# Altium footprint library Loggerhead.PcbLib: 175 footprints (part 1 of 11)
Each footprint in its own frame and in the unit in brackets; x right, y up, seen from the top. Pads: shape width x height; smd on the part's side, far side on the other; paste and mask are expansions set on the pad; w line width, h text height; cw(c..) or ccw(c..) is an arc to the next point about the centre after c.
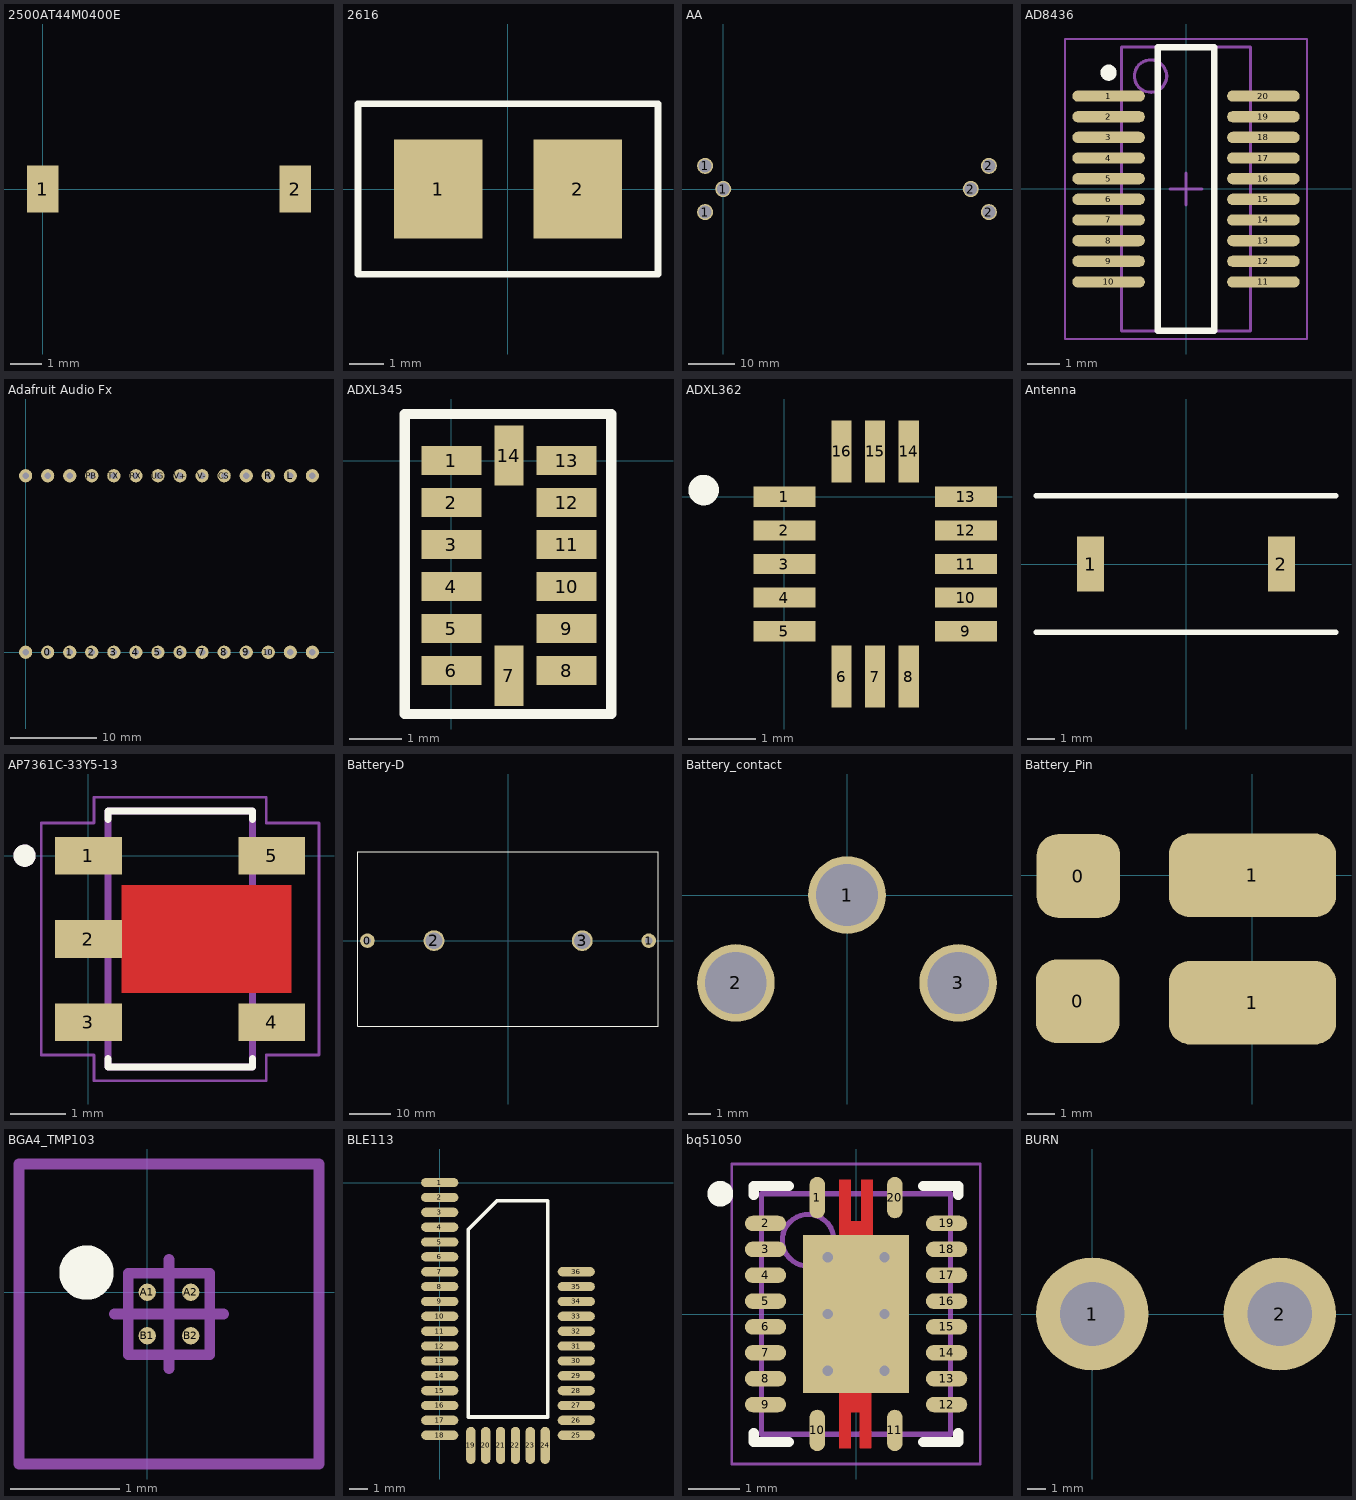
[diagram p0: the footprints below, top view; thin cyan lines are the x and y axes]

## 2500AT44M0400E [mm] "2.4GHz Antenna"
height 1
pads (2):
  rect 1x1.5 smd: 1(0,0) 2(8,0)

## 2616 [mm]
pads (2):
  rect 2.6x2.9 smd: 1(-2.05,0) 2(2.05,0)
Top Overlay:
  lines w0.2: -4.4,-2.5 4.4,-2.5 4.4,2.5 -4.4,2.5 -4.4,0 -4.4,-2.5

## AA [mm]
height 9.65
pads (6):
  round 3.5 hole 2.79: 1(-3.96,-5.015) 1(-3.96,5.015) 1(0,0) 2(53.9,0) 2(57.86,-5.015) 2(57.86,5.015)

## AD8436 [mm] "RMS to DC"
height 1.75
pads (20):
  oval 2.25x0.35 smd: 1(-2.4,2.88) 2(-2.4,2.24) 3(-2.4,1.6) 4(-2.4,0.96) 5(-2.4,0.32) 6(-2.4,-0.32) 7(-2.4,-0.96) 8(-2.4,-1.6) 9(-2.4,-2.24) 10(-2.4,-2.88) 11(2.4,-2.88) 12(2.4,-2.24) 13(2.4,-1.6) 14(2.4,-0.96) 15(2.4,-0.32) 16(2.4,0.32) 17(2.4,0.96) 18(2.4,1.6) 19(2.4,2.24) 20(2.4,2.88)
Top Overlay:
  circle w0.25: c-2.4,3.605 r0.125
  lines w0.2: -0.875,-4.4 -0.875,4.4 0.875,4.4 0.875,-4.4 -0.875,-4.4
Mechanical 13:
  circle w0.1: c-1.1,3.5 r0.5
  lines w0.1: -2,-4.4 -2,4.4 2,4.4 2,-4.4 -2,-4.4
Mechanical 15:
  lines w0.05: -3.75,-4.65 -3.75,4.65 3.75,4.65 3.75,-4.65 -3.75,-4.65
  lines w0.1: -0.5,0 0.5,0 ; 0,-0.5 0,0.5
3D body: height 1.75, standoff 0.2, extent -2,-4.4 2,4.4

## Adafruit Audio Fx [mil]
pads (28):
  round 60 hole 30: 0(100,0) 1(200,0) 2(300,0) 3(400,0) 4(500,0) 5(600,0) 6(700,0) 7(800,0) 8(900,0) 9(1000,0) 10(1100,0) ACT(1200,0) AUDIO_GND(1300,800) BUS(200,800) CS(900,800) GND(100,800) GND(1000,800) GND(1300,0) L(1200,800) PB(300,800) R(1100,800) RST(0,0) RX(500,800) TX(400,800) UG(600,800) V+(700,800) V-(800,800) Vin(0,800)

## ADXL345 [mm] "Digital Accelerometer"
height 0.95
pads (14):
  rect 1.145x0.55 smd: 1(0,0) 2(0,-0.8) 3(0,-1.6) 4(0,-2.4) 5(0,-3.2) 6(0,-4) 8(2.195,-4) 9(2.195,-3.2) 10(2.195,-2.4) 11(2.195,-1.6) 12(2.195,-0.8) 13(2.195,0)
  rect 0.55x1.145 smd: 7(1.098,-4.098) 14(1.098,0.098)
Top Overlay:
  lines w0.2: -0.889,-4.826 3.048,-4.826 3.048,0.889 -0.889,0.889 -0.889,-4.826

## ADXL362 [mm]
height 1.14
pads (16):
  rect 0.925x0.3 smd: 1(0,0) 2(0,-0.5) 3(0,-1) 4(0,-1.5) 5(0,-2) 9(2.7,-2) 10(2.7,-1.5) 11(2.7,-1) 12(2.7,-0.5) 13(2.7,0)
  rect 0.3x0.925 smd: 6(0.85,-2.675) 7(1.35,-2.675) 8(1.85,-2.675) 14(1.85,0.675) 15(1.35,0.675) 16(0.85,0.675)
Top Overlay:
  circle w0.254: c-1.2,0.1 r0.1

## Antenna [mm]
pads (2):
  rect 1x2 smd: 1(-3.5,0) 2(3.5,0)
Top Overlay:
  lines w0.2: -5.5,-2.5 5.5,-2.5 ; -5.5,2.5 5.5,2.5

## AP7361C-33Y5-13 [mm] "3.3V LDO"
pads (5):
  rect 1.2x0.68 smd: 1(0,0) 3(0,-3) 4(3.3,-3) 5(3.3,0)
  rect 1.2x0.68 smd paste-2 mask+0: 2(0,-1.5)
Top Layer:
  region: 3.65,-2.465 0.6,-2.465 0.6,-1.84 -0.6,-1.84 -0.6,-1.16 0.6,-1.16 0.6,-0.535 3.65,-0.535
Top Overlay:
  circle w0.2: c-1.15,0 r0.1
  lines w0.127: 0.35,-3.654 0.35,-3.8 2.95,-3.8 2.95,-3.654 ; 0.35,0.654 0.35,0.8 2.95,0.8 2.95,0.654
Top Paste:
  region: 3.65,-2.465 0.6,-2.465 0.6,-1.84 -0.6,-1.84 -0.6,-1.16 0.6,-1.16 0.6,-0.535 3.65,-0.535
Top Solder:
  region: 3.75,-2.565 0.5,-2.565 0.5,-1.94 -0.7,-1.94 -0.7,-1.06 0.5,-1.06 0.5,-0.435 3.75,-0.435
Mechanical 13:
  circle w0.2: c-1.15,0 r0.1
  lines w0.127: 0.35,-3.8 2.95,-3.8 2.95,0.8 0.35,0.8 0.35,-3.8
Mechanical 15:
  lines w0.05: -0.85,-3.59 0.1,-3.59 0.1,-4.05 3.2,-4.05 3.2,-3.59 4.15,-3.59 4.15,0.59 3.2,0.59 3.2,1.05 0.1,1.05 0.1,0.59 -0.85,0.59 -0.85,-3.59

## Battery-D [mm] "Bulgin BX0037"
height 38.5
pads (4):
  round 3.5 hole 1.8: 0(-33.75,0) 1(33.75,0)
  round 5 hole 4: 2(-17.8,0) 3(17.8,0)
Top Overlay:
  lines w0.254: -36.025,-20.55 -36.025,21.35 35.975,21.35 35.975,-20.55 -36.025,-20.55

## Battery_contact [mm] "Keystone cat 637"
height 9.65
pads (3):
  round 3.5 hole 2.79: 1(0,0) 2(-5.015,-3.96) 3(5.015,-3.96)

## Battery_Pin [mm]
height 4
pads (4):
  rrect50% 3x3 smd: 0(-6.275,-4.525) 0(-6.25,-0.025)
  rrect50% 6x3 smd: 1(0,-4.575) 1(0,0)
3D body: height 3, standoff 2, extent -8.9,-1.049 -3.1,-0.051
3D body: height 3.98, standoff 0, extent -3.075,-2.45 26.925,1.542
3D body: height 3.98, standoff 0, extent -3.1,-6.6 26.9,-2.608
3D body: height 3, standoff 2, extent -8.925,-5.199 -3.125,-4.201

## BGA4_TMP103 [mm] "BGA, 4-Leads, Body 0.8x0.8mm,  Pitch 0.40mm"
height 0.625
pads (4):
  round 0.16 smd: A1(0,0) A2(0.4,0) B1(0,-0.4) B2(0.4,-0.4)
Top Overlay:
  circle w0.25: c-0.56,0.181 r0.125
Mechanical 13:
  lines w0.1: -0.175,-0.575 -0.175,0.175 0.575,0.175 0.575,-0.575 -0.175,-0.575
Mechanical 15:
  lines w0.1: -0.3,-0.2 0.7,-0.2 ; 0.2,-0.7 0.2,0.3 ; -1.18,-1.58 -1.18,1.18 1.58,1.18 1.58,-1.58 -1.18,-1.58
3D body: height 0.63, standoff 0.3, extent -0.175,-0.575 0.575,0.175

## BLE113 [mm]
height 1.9
pads (36):
  oval 2x0.5 smd: 1(0,0) 2(0,-0.8) 3(0,-1.6) 4(0,-2.4) 5(0,-3.2) 6(0,-4) 7(0,-4.8) 8(0,-5.6) 9(0,-6.4) 10(0,-7.2) 11(0,-8) 12(0,-8.8) 13(0,-9.6) 14(0,-10.4) 15(0,-11.2) 16(0,-12) 17(0,-12.8) 18(0,-13.6) 25(7.35,-13.6) 26(7.35,-12.8) 27(7.35,-12) 28(7.35,-11.2) 29(7.35,-10.4) 30(7.35,-9.6) 31(7.35,-8.8) 32(7.35,-8) 33(7.35,-7.2) 34(7.35,-6.4) 35(7.35,-5.6) 36(7.35,-4.8)
  oval 0.5x2 smd: 19(1.675,-14.15) 20(2.475,-14.15) 21(3.275,-14.15) 22(4.075,-14.15) 23(4.875,-14.15) 24(5.675,-14.15)
Top Overlay:
  lines w0.2: 1.535,-12.615 1.535,-2.52 3.07,-0.985 5.815,-0.985 5.815,-12.615 1.535,-12.615

## bq51050 [mm] "TI Qi Receiver"
height 0.9
pads (21):
  oval 0.3x0.8 smd: 1(-0.75,2.25) 10(-0.75,-2.25) 11(0.75,-2.25) 20(0.75,2.25)
  oval 0.8x0.3 smd: 2(-1.75,1.75) 3(-1.75,1.25) 4(-1.75,0.75) 5(-1.75,0.25) 6(-1.75,-0.25) 7(-1.75,-0.75) 8(-1.75,-1.25) 9(-1.75,-1.75) 12(1.75,-1.75) 13(1.75,-1.25) 14(1.75,-0.75) 15(1.75,-0.25) 16(1.75,0.25) 17(1.75,0.75) 18(1.75,1.25) 19(1.75,1.75)
  rect 2.05x3.05 smd: ""(0,0)
via -0.55,1.1 diameter 0.5 hole 0.2
via 0.55,1.1 diameter 0.5 hole 0.2
via -0.55,0 diameter 0.5 hole 0.2
via 0.55,0 diameter 0.5 hole 0.2
via -0.55,-1.1 diameter 0.5 hole 0.2
via 0.55,-1.1 diameter 0.5 hole 0.2
Top Layer:
  rectangle: -0.2,-1.9 0.2,-1.5
  rectangle: -0.2,1.4 0.2,1.8
  rectangle: 0.07,-2.6 0.3,-1.5
  rectangle: -0.33,-2.6 -0.1,-1.5
  rectangle: 0.1,1.5 0.33,2.6
  rectangle: -0.33,1.5 -0.1,2.6
Top Overlay:
  circle w0.25: c-2.625,2.325 r0.125
  lines w0.2: -1.975,-2.3 -1.975,-2.475 -1.3,-2.475 ; -1.975,2.3 -1.975,2.475 -1.3,2.475 ; 1.3,-2.475 1.975,-2.475 1.975,-2.3 ; 1.3,2.475 1.975,2.475 1.975,2.3
Mechanical 13:
  circle w0.1: c-0.925,1.425 r0.5
  lines w0.1: -1.825,-2.325 -1.825,2.325 1.825,2.325 1.825,-2.325 -1.825,-2.325
Mechanical 15:
  lines w0.05: -2.4,-2.9 -2.4,2.9 2.4,2.9 2.4,-2.9 -2.4,-2.9
  lines w0.1: -0.5,0 0.5,0 ; 0,-0.5 0,0.5
3D body: height 0.9, standoff 0.02, extent -1.825,-2.325 1.825,2.325

## BURN [mm]
pads (2):
  round 6 hole 3.42: 1(0,0) 2(10,0)